# Altium schematic symbol library kmilo17pet-TI_MSP430.SchLib: 1463 symbols (part 8 of 130)
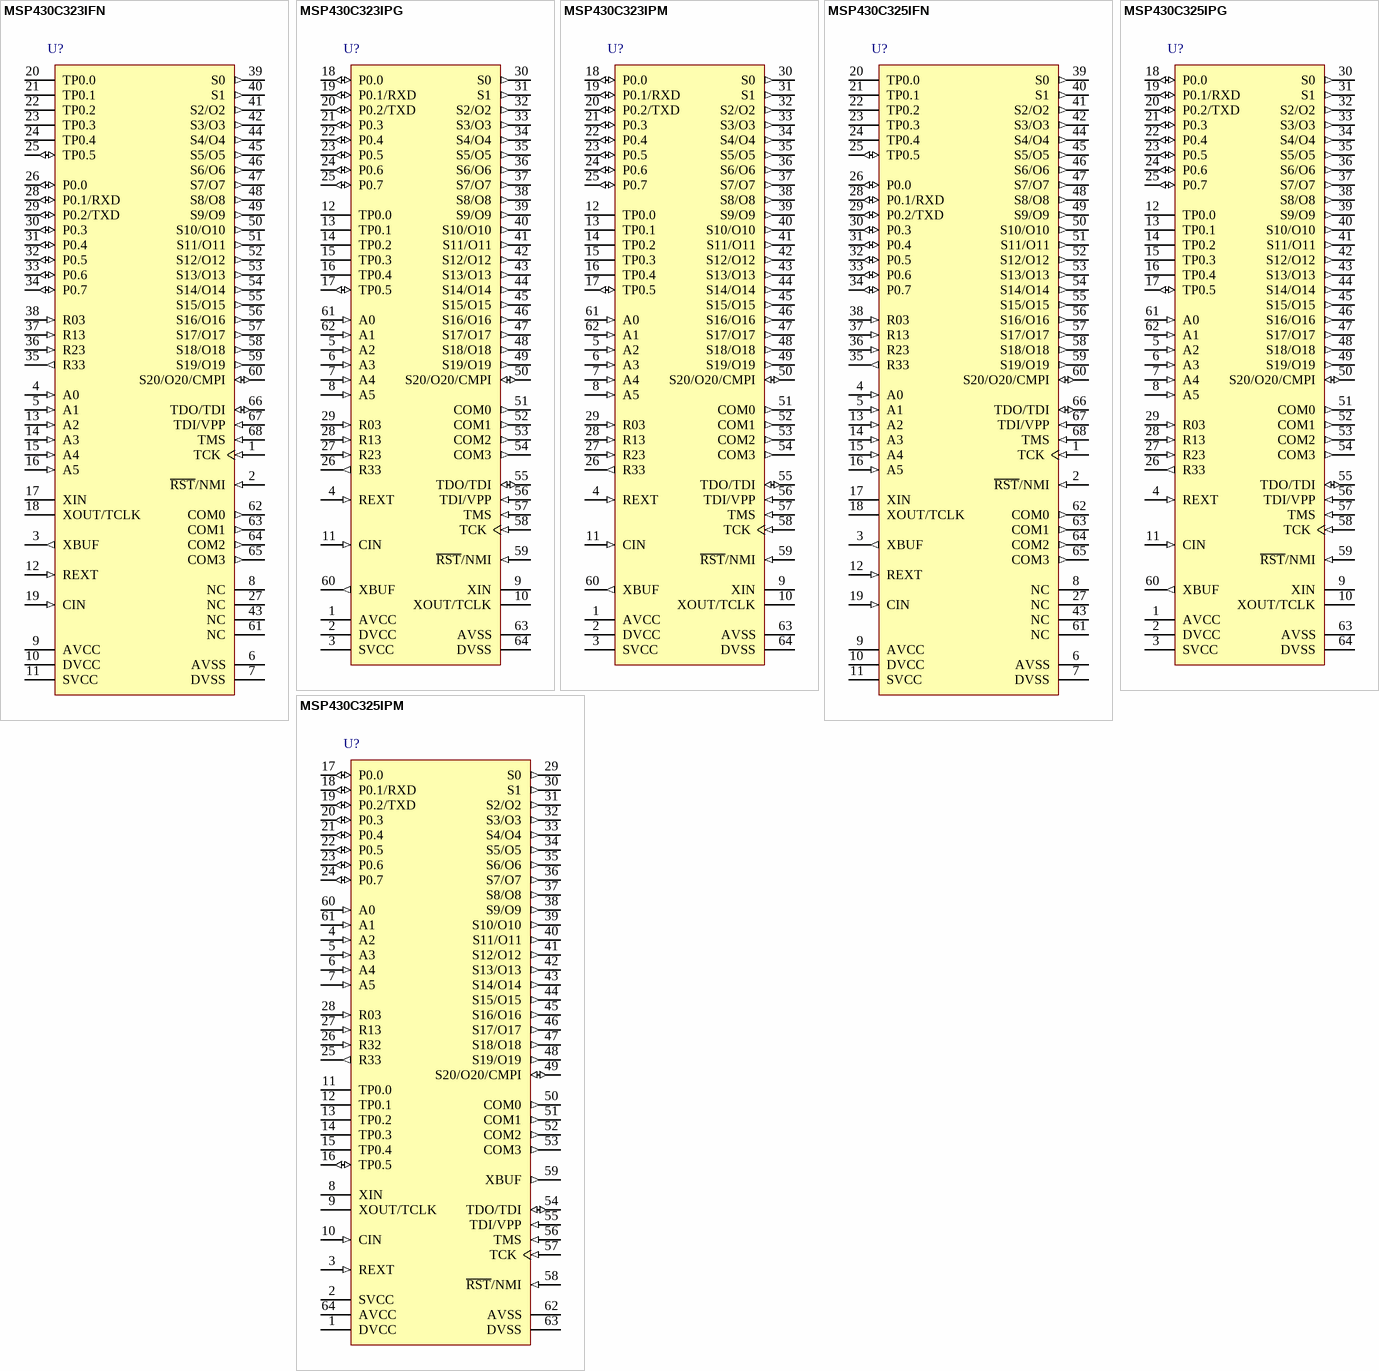
[diagram p340: symbols MSP430C323IFN to MSP430C325IPM]

## MSP430C325IFN
designator U?
Mixed Signal Microcontroller with 512 B RAM, -40 to 85 degC, 68-pin PLCC (FN); Manufacturer: Texas Instruments; PartNumber: MSP430C325IFN; DatasheetVersion: SLAS219B; PackageReference: FN68; PackageDescription: 68-Pin Plastic J-Leaded Chip Carrier, Body 24.23 x 24.23 mm, Pitch 1.27 mm; Supplier 1: Mouser; Supplier Part Number 1: N/A; Mounting Technology: Surface Mount; Code_JEDEC: MS-018; ComponentLink1Description: Manufacturer URL; ComponentLink1URL: http://www.ti.com/; ComponentLink2Description: Datasheet; ComponentLink2URL: http://www.ti.com/general/docs/lit/getliterature.tsp?genericPartNumber=MSP430C325&fileType=pdf; ComponentLink3Description: Package Specification; ComponentLink3URL: http://www.ti.com/litv/pdf/mplc004a
footprint TI-FN68_N (PLCC, 68-Leads, Body 24.23x24.23mm, Pitch 1.27mm, IPC Medium Density)
pins: 1 TCK (in) "Test clock, clock input terminal for device programming and test", 2 ~{RST}/NMI (in), 3 XBUF (out) "Clock signal output of system clock MCLK or crystal clock ACLK", 4 A0 (in) "Analog-to-digital converter input port 0 or digital input port 0", 5 A1 (in) "Analog-to-digital converter input port 0 or digital input port 1", 6 AVSS (power) "Analog ground reference", 7 DVSS (power) "Digital ground reference", 8 NC, 9 AVCC (power) "Positive analog supply voltage", 10 DVCC (power) "Positive digital supply voltage", 11 SVCC (power) "Switched AVCC to analog-to-digital converter", 12 REXT (in) "Programming resistor input of internal current source", 13 A2 (in) "Analog-to-digital converter input port 0 or digital input port 2", 14 A3 (in) "Analog-to-digital converter input port 0 or digital input port 3", 15 A4 (in) "Analog-to-digital converter input port 0 or digital input port 4", 16 A5 (in) "Analog-to-digital converter input port 0 or digital input port 5", 17 XIN "Input terminal of crystal oscillator", 18 XOUT/TCLK, 19 CIN (in) "Input used as enable of counter TPCNT1 - Timer/Port", 20 TP0.0 (hiz) "General-purpose 3-state digital output port, bit 0 - Timer/Port", 21 TP0.1 (hiz) "General-purpose 3-state digital output port, bit 1 - Timer/Port", 22 TP0.2 (hiz) "General-purpose 3-state digital output port, bit 2 - Timer/Port", 23 TP0.3 (hiz) "General-purpose 3-state digital output port, bit 3 - Timer/Port", 24 TP0.4 (hiz) "General-purpose 3-state digital output port, bit 4 - Timer/Port", 25 TP0.5 (io) "General-purpose digital input/output port, bit 5 - Timer/Port", 26 P0.0 (io) "General-purpose digital I/O", 27 NC, 28 P0.1/RXD (io), 29 P0.2/TXD (io), 30 P0.3 (io) "Five general-purpose digital I/Os, bit 3", 31 P0.4 (io) "Five general-purpose digital I/Os, bit 4", 32 P0.5 (io) "Five general-purpose digital I/Os, bit 5", 33 P0.6 (io) "Five general-purpose digital I/Os, bit 6", 34 P0.7 (io) "Five general-purpose digital I/Os, bit 7", 35 R33 (out) "Output of first positive analog LCD level (V1) - LCD", 36 R23 (in) "Input of second positive analog LCD level (V2) - LCD", 37 R13 (in) "Input of third positive analog LCD level (V3) - LCD", 38 R03 (in) "Input of fourth positive analog LCD level (V4) - LCD", 39 S0 (out) "Segment line S0 - LCD", 40 S1 (out) "Segment line S1 - LCD", 41 S2/O2 (out), 42 S3/O3 (out), 43 NC, 44 S4/O4 (out), 45 S5/O5 (out), 46 S6/O6 (out), 47 S7/O7 (out), 48 S8/O8 (out), 49 S9/O9 (out), 50 S10/O10 (out), 51 S11/O11 (out), 52 S12/O12 (out), 53 S13/O13 (out), 54 S14/O14 (out), 55 S15/O15 (out), 56 S16/O16 (out), 57 S17/O17 (out), 58 S18/O18 (out), 59 S19/O19 (out), 60 S20/O20/CMPI (io), 61 NC, 62 COM0 (out) "Common output, used for LCD backplanes - LCD", 63 COM1 (out) "Common output, used for LCD backplanes - LCD", 64 COM2 (out) "Common output, used for LCD backplanes - LCD", 65 COM3 (out) "Common output, used for LCD backplanes - LCD", 66 TDO/TDI (io), 67 TDI/VPP (in), 68 TMS (in) "Test mode select, input terminal for device programming and test"

## MSP430C325IPG
designator U?
Mixed Signal Microcontroller with 512 B RAM, -40 to 85 degC, 64-pin QFP (PG); Manufacturer: Texas Instruments; PartNumber: MSP430C325IPG; DatasheetVersion: SLAS219B; PackageVersion: 4040101/B; PackageReference: PG64; PackageDescription: 64-Pin Plastic Quad Flat Pack, Body 20 x 14 mm, Pitch 1.0 mm; Supplier 1: Mouser; Supplier Part Number 1: N/A; Mounting Technology: Surface Mount; ComponentLink1Description: Manufacturer URL; ComponentLink1URL: http://www.ti.com/; ComponentLink2Description: Datasheet; ComponentLink2URL: http://www.ti.com/general/docs/lit/getliterature.tsp?genericPartNumber=MSP430C325&fileType=pdf; ComponentLink3Description: Package Specification; ComponentLink3URL: http://www.ti.com/lit/ml/mqfp008/mqfp008.pdf
footprint TI-PG64_N (QFP, 64-Leads, Body 20x14mm, Pitch 1mm, IPC Medium Density)
pins: 1 AVCC (power) "Positive analog supply voltage", 2 DVCC (power) "Positive digital supply voltage", 3 SVCC (power) "Switched AVCC to analog-to-digital converter", 4 REXT (in) "Programming resistor input of internal current source", 5 A2 (in) "Analog-to-digital converter input port 2 or digital input port 2", 6 A3 (in) "Analog-to-digital converter input port 3 or digital input port 3", 7 A4 (in) "Analog-to-digital converter input port 4 or digital input port 4", 8 A5 (in) "Analog-to-digital converter input port 5 or digital input port 5", 9 XIN "Input terminal of crystal oscillator", 10 XOUT/TCLK, 11 CIN (in) "Input used as enable of counter TPCNT1 - Timer/Port", 12 TP0.0 (hiz) "General-purpose 3-state digital output port, bit 0 - Timer/Port", 13 TP0.1 (hiz) "General-purpose 3-state digital output port, bit 1 - Timer/Port", 14 TP0.2 (hiz) "General-purpose 3-state digital output port, bit 2 - Timer/Port", 15 TP0.3 (hiz) "General-purpose 3-state digital output port, bit 3 - Timer/Port", 16 TP0.4 (hiz) "General-purpose 3-state digital output port, bit 4 - Timer/Port", 17 TP0.5 (io) "General-purpose digital input/output port, bit 5 - Timer/Port", 18 P0.0 (io) "General-purpose digital I/O", 19 P0.1/RXD (io), 20 P0.2/TXD (io), 21 P0.3 (io) "General-purpose digital I/O", 22 P0.4 (io) "General-purpose digital I/O", 23 P0.5 (io) "General-purpose digital I/O", 24 P0.6 (io) "General-purpose digital I/O", 25 P0.7 (io) "General-purpose digital I/O", 26 R33 (out) "Output of first positive analog LCD level (V1) - LCD", 27 R23 (in) "Input of second positive analog LCD level (V2) - LCD", 28 R13 (in) "Input of third positive analog LCD level (V3) - LCD", 29 R03 (in) "Input of fourth positive analog LCD level (V4) - LCD", 30 S0 (out) "Segment line S0 - LCD", 31 S1 (out) "Segment line S1 - LCD", 32 S2/O2 (out), 33 S3/O3 (out), 34 S4/O4 (out), 35 S5/O5 (out), 36 S6/O6 (out), 37 S7/O7 (out), 38 S8/O8 (out), 39 S9/O9 (out), 40 S10/O10 (out), 41 S11/O11 (out), 42 S12/O12 (out), 43 S13/O13 (out), 44 S14/O14 (out), 45 S15/O15 (out), 46 S16/O16 (out), 47 S17/O17 (out), 48 S18/O18 (out), 49 S19/O19 (out), 50 S20/O20/CMPI (io), 51 COM0 (out) "Common output, used for LCD backplane - LCD", 52 COM1 (out) "Common output, used for LCD backplane - LCD", 53 COM2 (out) "Common output, used for LCD backplane - LCD", 54 COM3 (out) "Common output, used for LCD backplane - LCD", 55 TDO/TDI (io), 56 TDI/VPP (in), 57 TMS (in) "Test mode select, input terminal for device programming and test", 58 TCK (in) "Test clock, clock input terminal for device programming and test", 59 ~{RST}/NMI (in), 60 XBUF (out) "Clock signal output of system clock MCLK or crystal clock ACLK", 61 A0 (in) "Analog-to-digital converter input port 0 or digital input port 0", 62 A1 (in) "Analog-to-digital converter input port 1 or digital input port 1", 63 AVSS (power) "Analog ground reference", 64 DVSS (power) "Digital ground reference"

## MSP430C325IPM
designator U?
Mixed Signal Microcontroller with 512 B RAM, -40 to 85 degC, 64-pin QFP (PM); Manufacturer: Texas Instruments; PartNumber: MSP430C325IPM; DatasheetVersion: SLAS219B; PackageVersion: 4040152/C; PackageReference: PM64; PackageDescription: 64-Pin Plastic Quad Flat Pack, Body 10 x 10 mm, Pitch 0.5 mm; Supplier 1: Mouser; Supplier Part Number 1: N/A; Mounting Technology: Surface Mount; Code_JEDEC: MS-026; ComponentLink1Description: Manufacturer URL; ComponentLink1URL: http://www.ti.com/; ComponentLink2Description: Datasheet; ComponentLink2URL: http://www.ti.com/general/docs/lit/getliterature.tsp?genericPartNumber=MSP430C325&fileType=pdf; ComponentLink3Description: Package Specification; ComponentLink3URL: http://www.ti.com/lit/ml/mtqf008a/mtqf008a.pdf
footprint TI-PM64_N (QFP, 64-Leads, Body 10x10mm, Pitch 0.5mm, IPC Medium Density)
pins: 1 DVCC (power) "Positive digital supply voltage", 2 SVCC (power) "Switched AVCC to analog-to-digital converter", 3 REXT (in) "Programming resistor input of internal current source", 4 A2 (in) "Analog-to-digital converter inputs ports 2-5 or digital inputs ports 2-5", 5 A3 (in) "Analog-to-digital converter inputs ports 2-5 or digital inputs ports 2-5", 6 A4 (in) "Analog-to-digital converter inputs ports 2-5 or digital inputs ports 2-5", 7 A5 (in) "Analog-to-digital converter inputs ports 2-5 or digital inputs ports 2-5", 8 XIN "Input terminal of crystal oscillator", 9 XOUT/TCLK, 10 CIN (in) "Input used as enable of counter TPCNT1 - Timer/Port", 11 TP0.0 (hiz) "General-purpose 3-state digital output port, bit 0 - Timer/Port", 12 TP0.1 (hiz) "General-purpose 3-state digital output port, bit 1 - Timer/Port", 13 TP0.2 (hiz) "General-purpose 3-state digital output port, bit 2 - Timer/Port", 14 TP0.3 (hiz) "General-purpose 3-state digital output port, bit 3 - Timer/Port", 15 TP0.4 (hiz) "General-purpose 3-state digital output port, bit 4 - Timer/Port", 16 TP0.5 (io) "General-purpose digital input/output port, bit 5 - Timer/Port", 17 P0.0 (io) "General-purpose digital I/O", 18 P0.1/RXD (io), 19 P0.2/TXD (io), 20 P0.3 (io) "Five general-purpose digital I/Os, bit 3 to bit 7", 21 P0.4 (io) "Five general-purpose digital I/Os, bit 3 to bit 7", 22 P0.5 (io) "Five general-purpose digital I/Os, bit 3 to bit 7", 23 P0.6 (io) "Five general-purpose digital I/Os, bit 3 to bit 7", 24 P0.7 (io) "Five general-purpose digital I/Os, bit 3 to bit 7", 25 R33 (out) "Output of first positive analog LCD level (V1) - LCD", 26 R32 (in), 27 R13 (in) "Input of third positive analog LCD level (V3) - LCD", 28 R03 (in) "Input of fourth positive analog LCD level (V4) - LCD", 29 S0 (out) "Segment line S0 - LCD", 30 S1 (out) "Segment line S1 - LCD", 31 S2/O2 (out), 32 S3/O3 (out), 33 S4/O4 (out), 34 S5/O5 (out), 35 S6/O6 (out), 36 S7/O7 (out), 37 S8/O8 (out), 38 S9/O9 (out), 39 S10/O10 (out), 40 S11/O11 (out), 41 S12/O12 (out), 42 S13/O13 (out), 43 S14/O14 (out), 44 S15/O15 (out), 45 S16/O16 (out), 46 S17/O17 (out), 47 S18/O18 (out), 48 S19/O19 (out), 49 S20/O20/CMPI (io), 50 COM0 (out) "Common outputs, used for LCD backplanes - LCD", 51 COM1 (out) "Common outputs, used for LCD backplanes - LCD", 52 COM2 (out) "Common outputs, used for LCD backplanes - LCD", 53 COM3 (out) "Common outputs, used for LCD backplanes - LCD", 54 TDO/TDI (io), 55 TDI/VPP (in), 56 TMS (in) "Test mode select, input terminal for device programming and test", 57 TCK (in) "Test clock, clock input terminal for device programming and test", 58 ~{RST}/NMI (in), 59 XBUF (out) "Clock signal output of system clock MCLK or crystal clock ACLK", 60 A0 (in) "Analog-to-digital converter input port 0 or digital input port 0", 61 A1 (in) "Analog-to-digital converter input port 1 or digital input port 1", 62 AVSS (power) "Analog ground reference", 63 DVSS (power) "Digital ground reference", 64 AVCC (power) "Positive analog supply voltage"

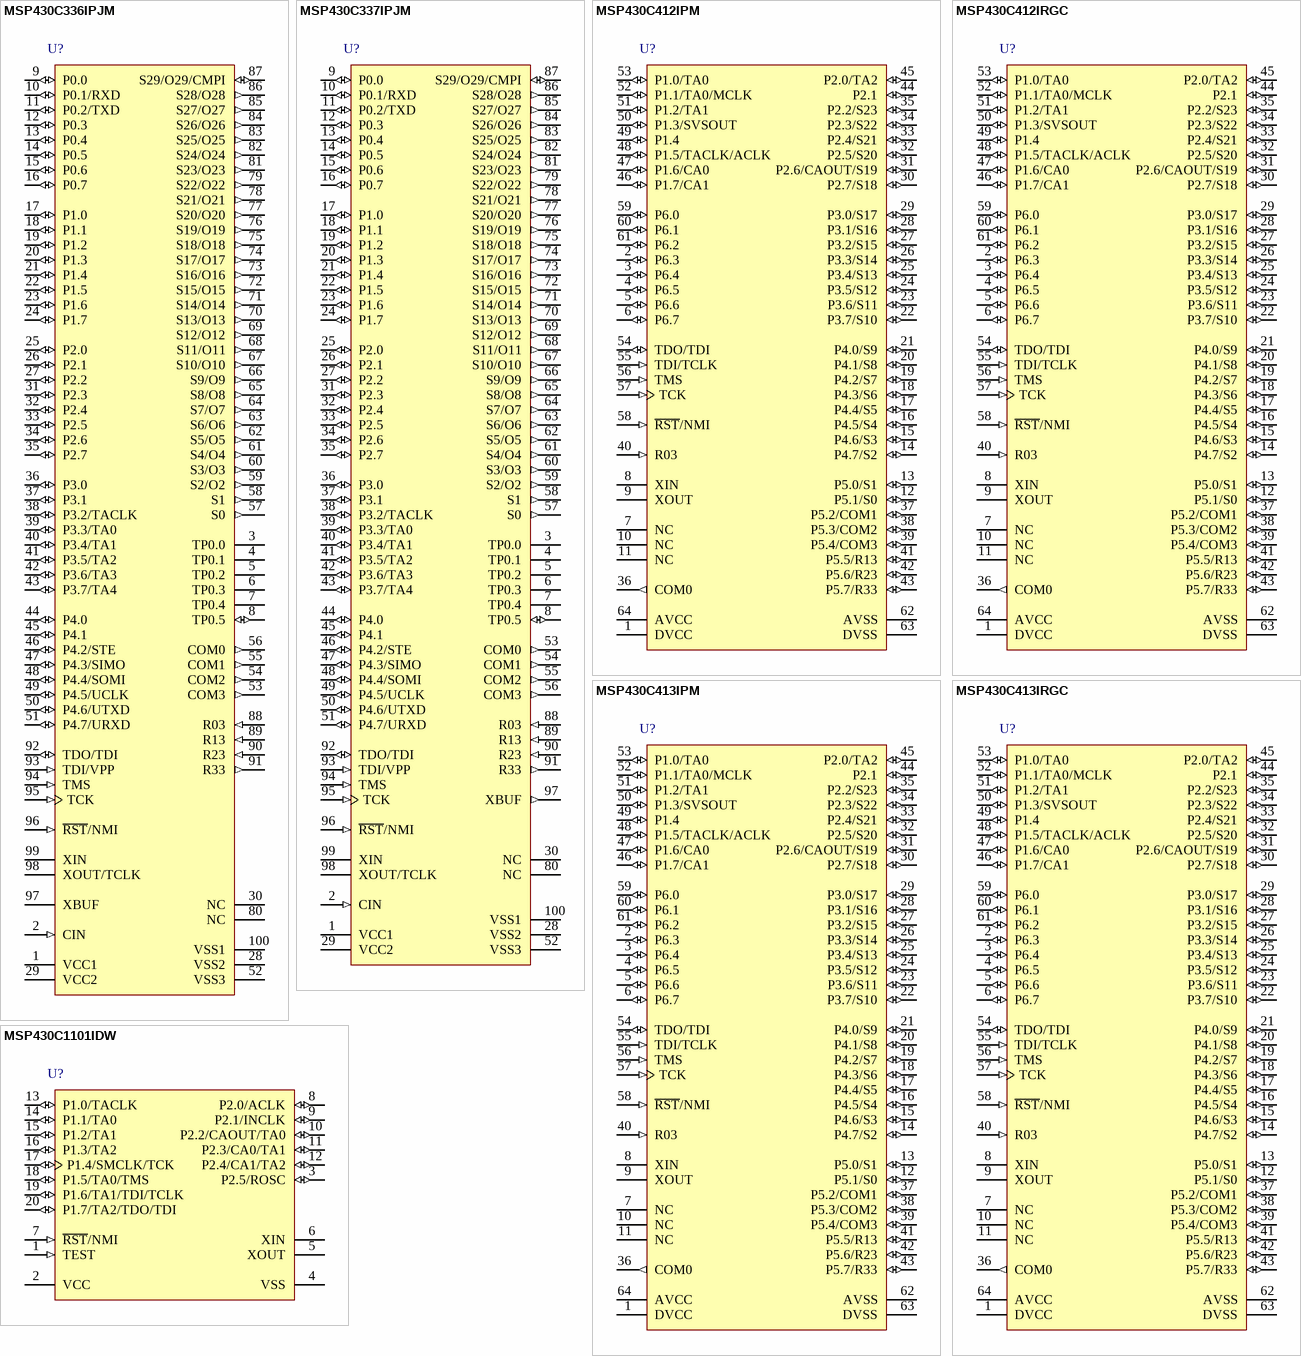
[diagram p15: symbols MSP430C336IPJM to MSP430C1101IDW]